# Altium integrated library 1N5822.IntLib: 1 symbol
Pins are listed as number, name and electrical type; pins without a type are passive.

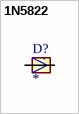
[diagram p0: symbol 1N5822]

## 1N5822
designator D?
Schottky, DO-201, 40V, 3A, 150Â°C; MF: Diotec Semiconductor; MP: 1N5822; SnapEDA_Link: https://www.snapeda.com/parts/1N5822/Diotec/view-part/?ref=snap; Package: DO-201 Diotec; Value: *; Check_prices: https://www.snapeda.com/parts/1N5822/Diotec/view-part/?ref=eda
footprint DIOAD2120W130L950D530P
pins: A, C